# Altium footprint library Conectores_modif.PcbLib: 6 footprints
Each footprint in its own frame and in the unit in brackets; x right, y up, seen from the top. Pads: shape width x height; smd on the part's side, far side on the other; paste and mask are expansions set on the pad; w line width, h text height; cw(c..) or ccw(c..) is an arc to the next point about the centre after c.
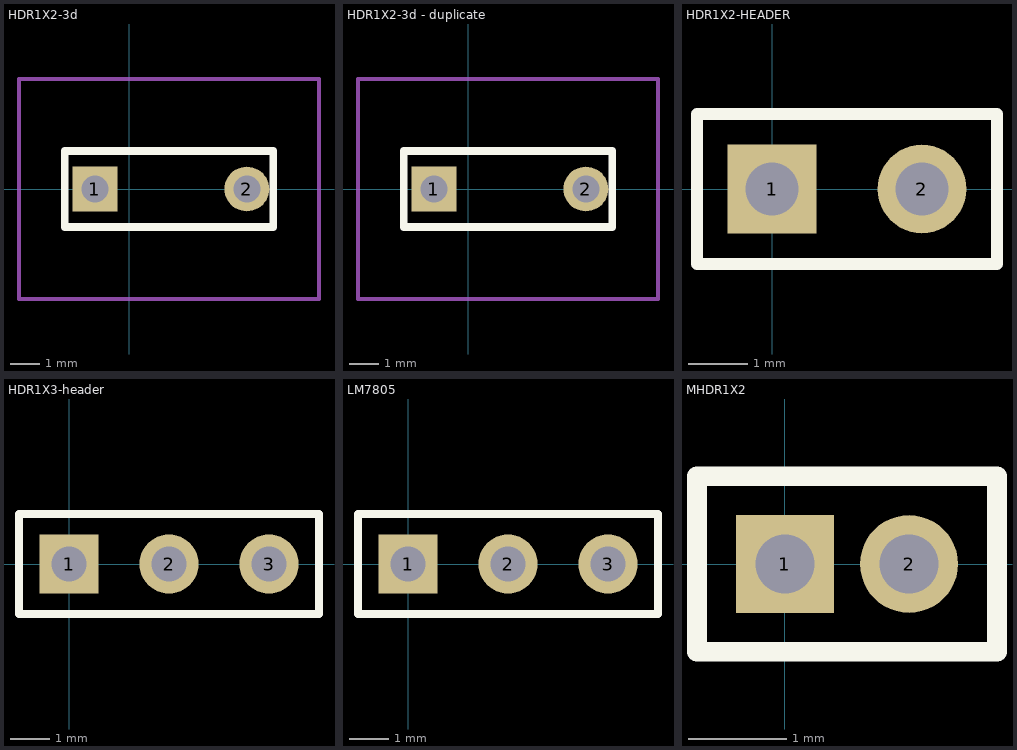
[diagram p0: the footprints below, top view; thin cyan lines are the x and y axes]

## HDR1X2-3d [mm] "Connector; Header; 2 Position"
pads (2):
  rect 1.5x1.5 hole 0.9: 1(-1.143,0)
  round 1.5 hole 0.9: 2(3.937,0)
Top Overlay:
  lines w0.2: -1.27,-1.27 3.81,-1.27 ; -1.27,-0.635 -1.27,0.635 ; -1.27,1.27 3.81,1.27
  lines w0.254: -2.159,-1.27 -2.159,1.27 4.826,1.27 4.826,-1.27 3.81,-1.27 -2.159,-1.27
Mechanical 1:
  lines w0.127: -3.683,-3.683 6.35,-3.683 6.35,3.683 -3.683,3.683 -3.683,-3.683
3D body "37875.stp": height 8.5, standoff -3.5, extent -2.42,-3.617 5.08,3.683

## HDR1X2-3d - duplicate [mm] "Connector; Header; 2 Position"
pads (2):
  rect 1.5x1.5 hole 0.9: 1(-1.143,0)
  round 1.5 hole 0.9: 2(3.937,0)
Top Overlay:
  lines w0.2: -1.27,-1.27 3.81,-1.27 ; -1.27,-0.635 -1.27,0.635 ; -1.27,1.27 3.81,1.27
  lines w0.254: -2.159,-1.27 3.81,-1.27 4.826,-1.27 4.826,1.27 -2.159,1.27 -2.159,-1.27
Mechanical 1:
  lines w0.127: -3.683,-3.683 -3.683,3.683 6.35,3.683 6.35,-3.683 -3.683,-3.683
3D body "37875.stp": height 8.5, standoff -3.5, extent -2.42,-3.617 5.08,3.683

## HDR1X2-HEADER [mm] "Connector; Header; 2 Position"
pads (2):
  rect 1.5x1.5 hole 0.9: 1(0,0)
  round 1.5 hole 0.9: 2(2.54,0)
Top Overlay:
  lines w0.2: -1.27,-1.27 3.81,-1.27 3.81,1.27 -1.27,1.27 -1.27,-1.27
3D body "mill-max-832-10-002-10-001000.STEP": height 3.91, standoff -8.15, extent -0.698,-0.996 3.302,1.004

## HDR1X3-header [mm] "Connector; Header; 3 Position"
pads (3):
  rect 1.5x1.5 hole 0.9: 1(0,0)
  round 1.5 hole 0.9: 2(2.54,0) 3(5.08,0)
Top Overlay:
  lines w0.2: -1.27,-1.27 6.35,-1.27 6.35,1.27 -1.27,1.27 -1.27,-1.27
3D body "User Library-1x3 TH Pitch 2_54mm.STEP": height 9.5, standoff -3.2, extent -1.27,-1.27 6.35,1.27

## LM7805 [mm] "Connector; Header; 3 Position"
pads (3):
  rect 1.5x1.5 hole 0.9: 1(0,0)
  round 1.5 hole 0.9: 2(2.54,0) 3(5.08,0)
Top Overlay:
  lines w0.2: -1.27,-1.27 -1.27,1.27 6.35,1.27 6.35,-1.27 -1.27,-1.27
3D body "User Library-7805.STEP": height 17.12, standoff -13.25, extent -2.794,-2.287 7.876,2.413

## MHDR1X2 [mm] "Connector; Header; 2 Position"
pads (2):
  rect 1x1 hole 0.6: 1(0,0)
  round 1 hole 0.6: 2(1.27,0)
Top Overlay:
  lines w0.2: -0.9,-0.9 -0.9,0.9 2.17,0.9 2.17,-0.9 -0.9,-0.9